# Altium schematic symbol library CONNECTOR_CARDEDGE.SchLib: 1 symbol
Pins are listed as number, name and electrical type; pins without a type are passive.

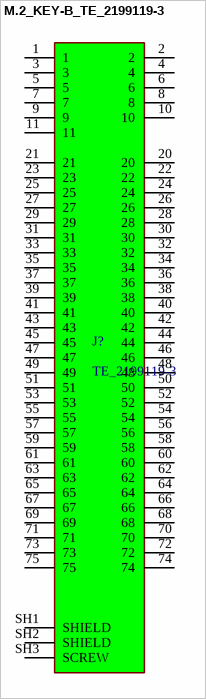
[diagram p0: symbol M.2_KEY-B_TE_2199119-3]

## M.2_KEY-B_TE_2199119-3
designator J?, comment TE_2199119-3
footprint TE_2199119-3
pins: 1, 2, 3, 4, 5, 6, 7, 8, 9, 10, 11, 20, 21, 22, 23, 24, 25, 26, 27, 28, 29, 30, 31, 32, 33, 34, 35, 36, 37, 38, 39, 40, 41, 42, 43, 44, 45, 46, 47, 48, 49, 50, 51, 52, 53, 54, 55, 56, 57, 58, 59, 60, 61, 62, 63, 64, 65, 66, 67, 68, 69, 70, 71, 72, 73, 74, 75, SH1 SHIELD, SH2 SHIELD, SH3 SCREW